# Altium schematic symbol library Molex Micro-Fit 3.0.SchLib: 6 symbols
Pins are listed as number, name and electrical type; pins without a type are passive.

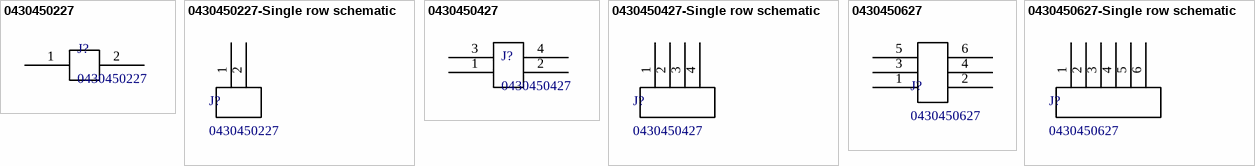
[diagram p0: symbols 0430450227 to 0430450627-Single row schematic]

## 0430450227
designator J?
Molex micro-fit 3.0. Molex P/N 0430450227
footprint 0430450227 (Molex Micro fit 3.0)
pins: 1, 2

## 0430450227-Single row schematic
designator J?, comment 0430450227
Micro-fit 3.0 connector. P/N 0430450227
footprint 0430450227 (Molex Micro fit 3.0)
pins: 1, 2

## 0430450427
designator J?
Molex micro-fit 3.0, P/N 0430450427
footprint 0430450427 (Molex micro-fit 3.0 4 pos)
pins: 1, 2, 3, 4

## 0430450427-Single row schematic
designator J?, comment 0430450427
Molex micro-fit 3.0 dual row header. P/N 0430450427
footprint 0430450427 (Molex micro-fit 3.0 4 pos)
pins: 1, 2, 3, 4

## 0430450627
designator J?
Molex micro-fit 3.0. P/N 0430450627
footprint 0430450627 (Molex micro-fit 3.0 6 position)
pins: 1, 2, 3, 4, 5, 6

## 0430450627-Single row schematic
designator J?, comment 0430450627
Molex micro-fit 3.0 dual row connector. P/N 0430450627
footprint 0430450627 (Molex micro-fit 3.0 6 position)
pins: 1, 2, 3, 4, 5, 6